# Altium footprint library ecoVENTV_v1.1.PcbLib: 36 footprints (part 3 of 3)
Each footprint in its own frame and in the unit in brackets; x right, y up, seen from the top. Pads: shape width x height; smd on the part's side, far side on the other; paste and mask are expansions set on the pad; w line width, h text height; cw(c..) or ccw(c..) is an arc to the next point about the centre after c.
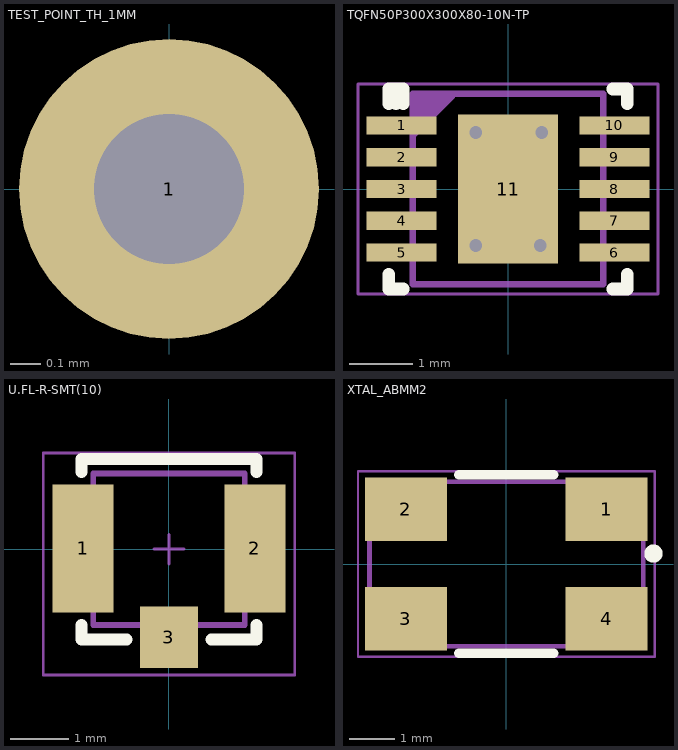
[diagram p2: the footprints below, top view; thin cyan lines are the x and y axes]

## TEST_POINT_TH_1MM [mm]
pads (1):
  round 1 hole 0.5 mask+0.051: 1(0,0)

## TQFN50P300X300X80-10N-TP [mm]
height 0.8
pads (11):
  rect 1.1x0.29 smd mask+0.051: 1(-1.675,1) 2(-1.675,0.5) 3(-1.675,0) 4(-1.675,-0.5) 5(-1.675,-1) 6(1.675,-1) 7(1.675,-0.5) 8(1.675,0) 9(1.675,0.5) 10(1.675,1)
  rect 1.58x2.35 smd paste+0 mask+0.051: 11(0,0)
via -0.508,-0.889 diameter 0.4 hole 0.2
via 0.533,0.889 diameter 0.4 hole 0.2
via 0.508,-0.889 diameter 0.4 hole 0.2
via -0.508,0.889 diameter 0.4 hole 0.2
Top Overlay:
  lines w0.2: -1.88,-1.346 -1.88,-1.575 -1.651,-1.575 ; -1.88,1.346 -1.88,1.575 -1.651,1.575 -1.651,1.346 ; -1.765,1.346 -1.765,1.575 ; 1.651,-1.575 1.88,-1.575 1.88,-1.346 ; 1.651,1.575 1.88,1.575 1.88,1.346
Mechanical 1:
  lines w0.102: -1.472,0.873 -0.872,1.473 ; -1.472,0.973 -0.972,1.473 ; -1.472,1.073 -1.072,1.473 ; -1.472,1.173 -1.172,1.473 ; -1.472,1.273 -1.272,1.473 ; -1.472,1.373 -1.372,1.473 ; -1.5,-1.5 1.5,-1.5 1.5,1.5 -1.5,1.5 -1.5,-1.5
  text ".Designator" at -0.73,-0.18 h0.51
Mechanical 15:
  lines w0.05: -0.5,0 0.5,0 ; 0,-0.5 0,0.5 ; -2.362,-1.651 2.362,-1.651 2.362,1.651 -2.362,1.651 -2.362,-1.651
3D body: height 0.8, standoff 0, extent -1.5,-1.5 1.5,1.5

## U.FL-R-SMT(10) [mm] "CONN UMC JACK STR 50 OHM SMD"
height 1.25
pads (3):
  rect 1.05x2.2 smd mask+0.051: 1(-1.475,0.013) 2(1.475,0.013)
  rect 1x1.05 smd mask+0.051: 3(0,-1.512)
Top Overlay:
  lines w0.203: -1.5,-1.3 -1.5,-1.55 -0.725,-1.55 ; -1.5,1.325 -1.5,1.55 1.5,1.55 1.5,1.325 ; 0.725,-1.55 1.5,-1.55 1.5,-1.3
Mechanical 1:
  lines w0.102: -1.3,-1.3 -1.3,1.3 1.3,1.3 1.3,-1.3 -1.3,-1.3
  text ".Designator" at -0.36,-0.12 h0.51
Mechanical 15:
  lines w0.051: -0.254,0 0.254,0 ; 0,-0.254 0,0.254 ; -2.159,-2.159 -2.159,1.651 2.159,1.651 2.159,-2.159 -2.159,-2.159
3D body: height 1.25, standoff 0, extent -1.5,-1.55 1.5,1.55

## XTAL_ABMM2 [mm] "Crystal/Oscillator in 6x3.2 mm package"
height 1.219
pads (4):
  rect 1.8x1.4 smd: 1(2.2,1.2) 2(-2.2,1.2) 3(-2.2,-1.2) 4(2.2,-1.2)
Top Overlay:
  circle w0.2: c3.226,0.229 r0.1
  lines w0.203: -1.041,-1.956 1.041,-1.956 ; -1.041,1.956 1.041,1.956
Mechanical 1:
  lines w0.102: -3,-1.8 -3,-0.5 -3,1.8 3,1.8 3,-1.8 -3,-1.8
  text ".Designator" at -0.584,-0.076 h0.51
Mechanical 15:
  lines w0.051: -3.251,-2.032 3.251,-2.032 3.251,2.032 -3.251,2.032 -3.251,-2.032
3D body: height 1.21, standoff 0, extent -3,-1.8 3,1.8